# Altium footprint library Transformer_Pcb.PcbLib: 1 footprints
Each footprint in its own frame and in the unit in brackets; x right, y up, seen from the top. Pads: shape width x height; smd on the part's side, far side on the other; paste and mask are expansions set on the pad; w line width, h text height; cw(c..) or ccw(c..) is an arc to the next point about the centre after c.
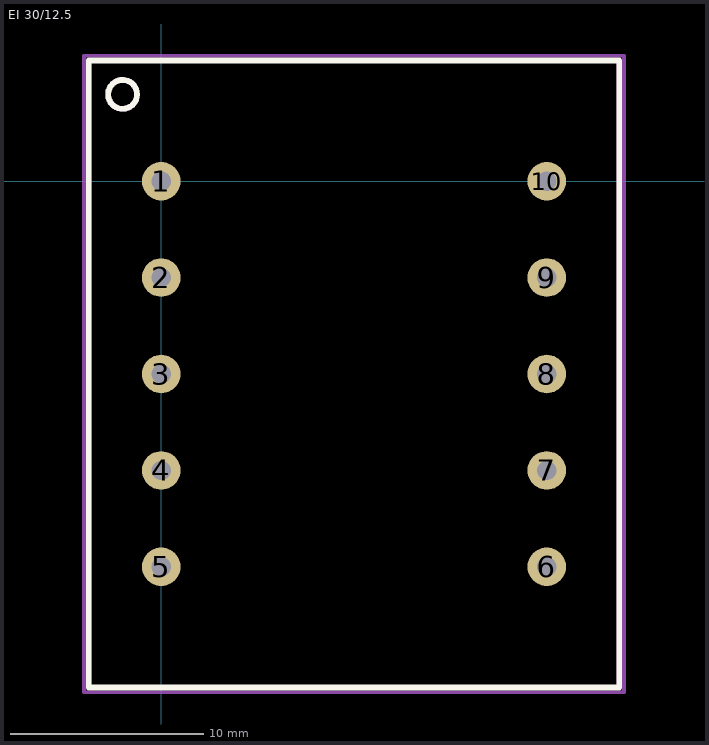
[diagram p0: the footprint, top view; thin cyan lines are the x and y axes]

## EI 30/12.5 [mm] "EL-KOM Transformer"
pads (10):
  round 2 hole 1: 1(0,0) 2(0,-5) 3(0,-10) 4(0,-15) 5(0,-20) 6(20,-20) 7(20,-15) 8(20,-10) 9(20,-5) 10(20,0)
Top Overlay:
  circle w0.3: c-2,4.5 r0.75
  lines w0.3: -3.75,-26.25 -3.75,6.25 23.75,6.25 23.75,-26.25 -3.75,-26.25
Mechanical 13:
  circle w0.3: c-2,4.5 r0.75
  lines w0.254: -3.75,-26.25 23.75,-26.25 23.75,6.25 -3.75,6.25 -3.75,-26.25
  text ".Designator" at 6.5,-25.214 h1.52
Mechanical 15:
  lines w0.2: -4,-26.5 -4,6.5 24,6.5 24,-26.5 -4,-26.5
3D body "EI 30125.step": height 24, standoff 0, extent -3.75,-26.25 23.75,6.25